# Altium footprint library C0805 - KYOCERA.PcbLib: 1 footprints
Each footprint in its own frame and in the unit in brackets; x right, y up, seen from the top. Pads: shape width x height; smd on the part's side, far side on the other; paste and mask are expansions set on the pad; w line width, h text height; cw(c..) or ccw(c..) is an arc to the next point about the centre after c.
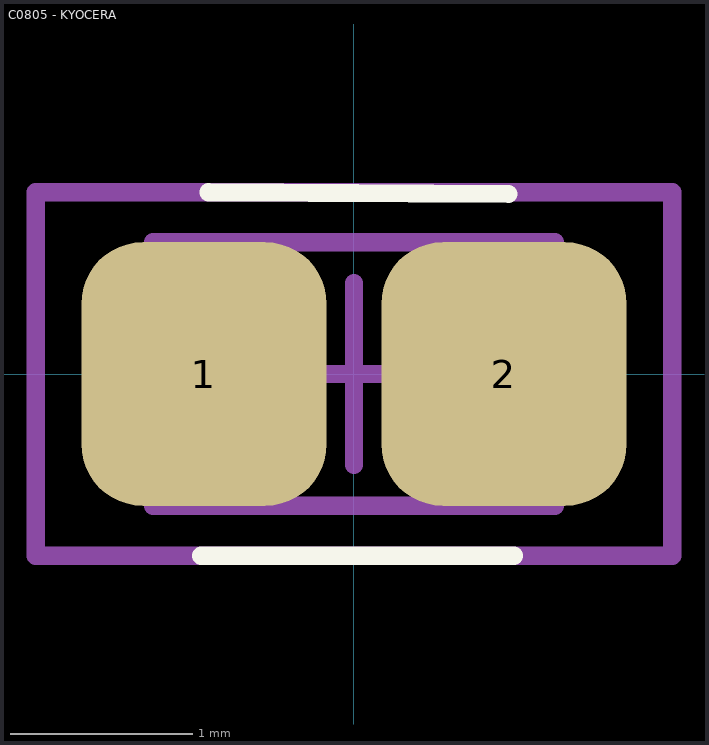
[diagram p0: the footprint, top view; thin cyan lines are the x and y axes]

## C0805 - KYOCERA [mm] "Chip Capacitor, 2-Leads, Body 2,01x1,25mm, IPC Medium Density"
height 0.5
pads (2):
  rrect50% 1.35x1.45 smd: 1(-0.825,0) 2(0.825,0)
Top Overlay:
  lines w0.1: -0.84,-1 0.88,-1 ; -0.8,1 0.85,0.99
Mechanical 13:
  lines w0.1: -1.105,-0.725 -1.105,0.725 1.105,0.725 1.105,-0.725 -1.105,-0.725
Mechanical 15:
  lines w0.1: -0.5,0 0.5,0 ; 0,-0.5 0,0.5 ; -1.75,-1 -1.75,1 1.75,1 1.75,-1 -1.75,-1
Top Designator:
  text ".Designator" at -1.014,-0.092 h0.25
3D body "step_temp.STEP": height 0.94, standoff 0, extent -1.005,-0.625 1.005,0.625